# Altium schematic symbol library CY7C68001-56PVC.Schlib: 1 symbol
Pins are listed as number, name and electrical type; pins without a type are passive.

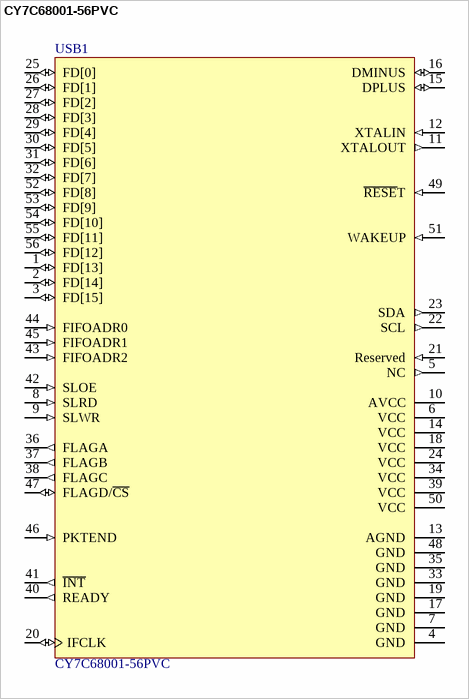
[diagram p0: symbol CY7C68001-56PVC]

## CY7C68001-56PVC
designator USB1
EZ-USB SX2 High-Speed USB Interface Device, 56-Pin SSOP; Published: 16-Dec-2005; DatasheetVersion: rev.G, Aug-2005; PackageVersion: Feb-2005; PackageReference: O56; Publisher: Altium Limited; PackageDescription: SSOP; 56 Leads; Body Width 7.5 mm; Pitch 0.635 mm; Code_JEDEC: MO-118-AB; Code_IPC: SSO56; ComponentLink1Description: Manufacturer Link; ComponentLink1URL: http://www.cypress.com/portal/server.pt; ComponentLink2Description: Datasheet; ComponentLink2URL: http://www.cypress.com/portal/server.pt/gateway/PTARGS_0_2_1524_209_259_43/http%3B/sjapp20.mis.cypress.com%3B7001/publishedcontent/publish/design_resources/datasheets/contents/cy7c68001_5.pdf
footprint SSOP-56
pins: 1 FD[13] (io), 2 FD[14] (io), 3 FD[15] (io), 4 GND (power), 5 NC (out), 6 VCC (power), 7 GND (power), 8 SLRD (in), 9 SLWR (in), 10 AVCC (power), 11 XTALOUT (out), 12 XTALIN (in), 13 AGND (power), 14 VCC (power), 15 DPLUS (io), 16 DMINUS (io), 17 GND (power), 18 VCC (power), 19 GND (power), 20 IFCLK (io), 21 Reserved (in), 22 SCL (out), 23 SDA (out), 24 VCC (power), 25 FD[0] (io), 26 FD[1] (io), 27 FD[2] (io), 28 FD[3] (io), 29 FD[4] (io), 30 FD[5] (io), 31 FD[6] (io), 32 FD[7] (io), 33 GND (power), 34 VCC (power), 35 GND (power), 36 FLAGA (out), 37 FLAGB (out), 38 FLAGC (out), 39 VCC (power), 40 READY (out), 41 ~{INT} (out), 42 SLOE (in), 43 FIFOADR2 (in), 44 FIFOADR0 (in), 45 FIFOADR1 (in), 46 PKTEND (in), 47 FLAGD/~{CS} (io), 48 GND (power), 49 ~{RESE}T (in), 50 VCC (power), 51 WAKEUP (in), 52 FD[8] (io), 53 FD[9] (io), 54 FD[10] (io), 55 FD[11] (io), 56 FD[12] (io)